# Altium schematic symbol library Embedded.SchLib: 9 symbols
Pins are listed as number, name and electrical type; pins without a type are passive.

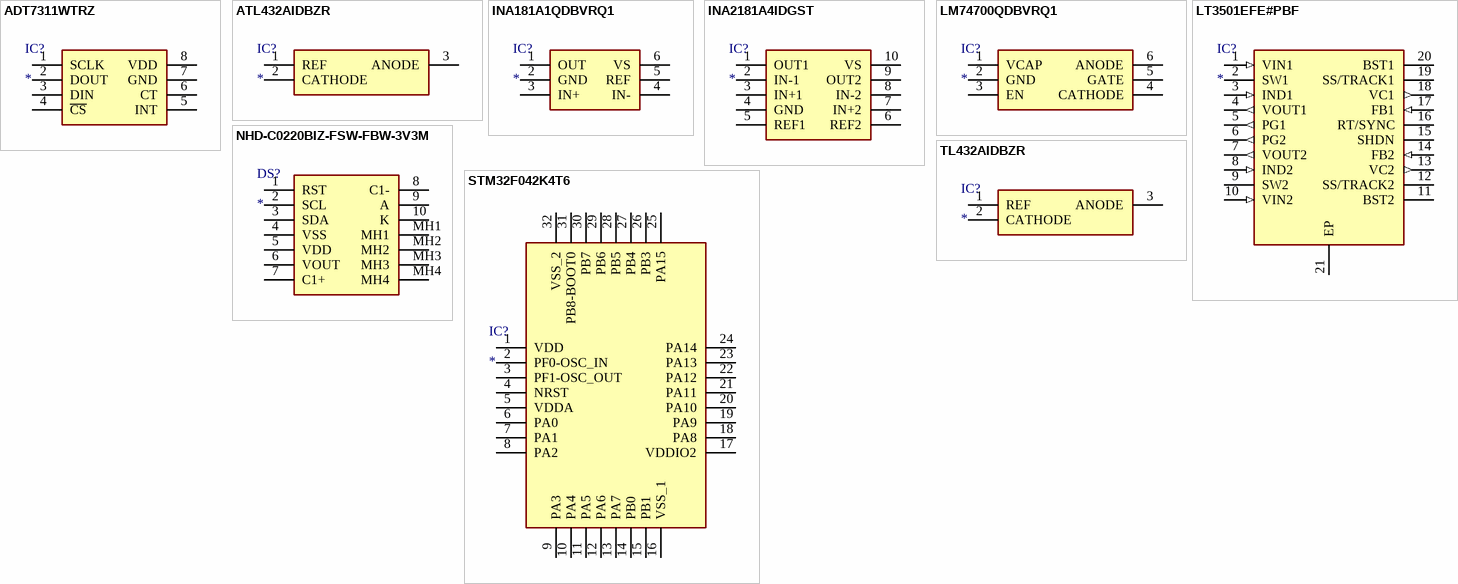
[diagram p0: symbols ADT7311WTRZ to TL432AIDBZR]

## ADT7311WTRZ
designator IC?
Integrated Circuit; Manufacturer_Name: Analog Devices; Manufacturer_Part_Number: ADT7311WTRZ; Datasheet Link: https://componentsearchengine.com/Datasheets/2/ADT7311WTRZ.pdf; Height: 1.75mm; Mouser Part Number: 584-ADT7311WTRZ; Mouser Price/Stock: https://www.mouser.com/Search/Refine.aspx?Keyword=584-ADT7311WTRZ
footprint SOIC127P600X175-8N
pins: 1 SCLK, 2 DOUT, 3 DIN, 4 ~{CS}, 5 INT, 6 CT, 7 GND, 8 VDD

## ATL432AIDBZR
designator IC?
Integrated Circuit; Manufacturer_Name: Texas Instruments; Manufacturer_Part_Number: ATL432AIDBZR; Datasheet Link: https://www.ti.com/lit/gpn/ATL432; Height: 1.12mm; Arrow Part Number: ATL432AIDBZR; Mouser Part Number: 595-ATL432AIDBZR; Mouser Price/Stock: https://www.mouser.co.uk/ProductDetail/Texas-Instruments/ATL432AIDBZR?qs=yajEpaT76uTSfuUtbT09pw%3D%3D
footprint SOT95P237X112-3N
pins: 1 REF, 2 CATHODE, 3 ANODE

## INA181A1QDBVRQ1
designator IC?
Integrated Circuit; Manufacturer_Name: Texas Instruments; Manufacturer_Part_Number: INA181A1QDBVRQ1; Datasheet Link: http://www.ti.com/lit/gpn/INA181-Q1; Height: 1.45mm; Arrow Part Number: INA181A1QDBVRQ1; Arrow Price/Stock: https://www.arrow.com/en/products/ina181a1qdbvrq1/texas-instruments; Mouser Part Number: 595-INA181A1QDBVRQ1; Mouser Price/Stock: https://www.mouser.co.uk/ProductDetail/Texas-Instruments/INA181A1QDBVRQ1?qs=EBDBlbfErPx7yYU5sEtaJQ%3D%3D
footprint SOT95P280X145-6N
pins: 1 OUT, 2 GND, 3 IN+, 4 IN-, 5 REF, 6 VS

## INA2181A4IDGST
designator IC?
Integrated Circuit; Manufacturer_Name: Texas Instruments; Manufacturer_Part_Number: INA2181A4IDGST; Datasheet Link: http://www.ti.com/lit/ds/symlink/ina2181.pdf; Height: 1.1mm; Arrow Part Number: INA2181A4IDGST; Arrow Price/Stock: https://www.arrow.com/en/products/ina2181a4idgst/texas-instruments; Mouser Part Number: 595-INA2181A4IDGST; Mouser Price/Stock: https://www.mouser.co.uk/ProductDetail/Texas-Instruments/INA2181A4IDGST?qs=j%252B1pi9TdxUbPFaAVw1%2FxVg%3D%3D
footprint SOP50P490X110-10N
pins: 1 OUT1, 2 IN-1, 3 IN+1, 4 GND, 5 REF1, 6 REF2, 7 IN+2, 8 IN-2, 9 OUT2, 10 VS

## LM74700QDBVRQ1
designator IC?
Integrated Circuit; Manufacturer_Name: Texas Instruments; Manufacturer_Part_Number: LM74700QDBVRQ1; Datasheet Link: http://www.ti.com/lit/gpn/LM74700-Q1; Height: 1.45mm; Arrow Part Number: LM74700QDBVRQ1; Arrow Price/Stock: https://www.arrow.com/en/products/lm74700qdbvrq1/texas-instruments; Mouser Part Number: 595-LM74700QDBVRQ1; Mouser Price/Stock: https://www.mouser.co.uk/ProductDetail/Texas-Instruments/LM74700QDBVRQ1?qs=j%252B1pi9TdxUYjAZhGV8eSkQ%3D%3D
footprint SOT95P280X145-6N
pins: 1 VCAP, 2 GND, 3 EN, 4 CATHODE, 5 GATE, 6 ANODE

## LT3501EFE#PBF
designator IC?
Integrated Circuit; Manufacturer_Name: Linear Technology; Manufacturer_Part_Number: LT3501EFE#PBF; Datasheet Link: http://cds.linear.com/docs/en/datasheet/3501fd.pdf; Height: 1.2mm; Arrow Part Number: LT3501EFE#PBF; Mouser Part Number: 584-LT3501EFE#PBF; Mouser Price/Stock: https://www.mouser.com/Search/Refine.aspx?Keyword=584-LT3501EFE%23PBF
footprint SOP65P640X120-21N
pins: 1 VIN1 (in), 2 SW1, 3 IND1 (in), 4 VOUT1 (out), 5 PG1 (out), 6 PG2 (out), 7 VOUT2 (out), 8 IND2 (in), 9 SW2, 10 VIN2 (in), 11 BST2, 12 SS/TRACK2, 13 VC2 (out), 14 FB2 (in), 15 SHDN, 16 RT/SYNC, 17 FB1 (in), 18 VC1 (out), 19 SS/TRACK1, 20 BST1, 21 EP (power)

## NHD-C0220BIZ-FSW-FBW-3V3M
designator DS?
Display; Manufacturer_Name: Newhaven Display; Manufacturer_Part_Number: NHD-C0220BIZ-FSW-FBW-3V3M; Datasheet Link: https://componentsearchengine.com/Datasheets/1/NHD-C0220BiZ-FSW-FBW-3V3M.pdf; Height: 7mm; Arrow Part Number: NHD-C0220BIZ-FSW-FBW-3V3M; Mouser Part Number: 763-C0220BIZ-FSW-FBW; Mouser Price/Stock: https://www.mouser.com/Search/Refine.aspx?Keyword=763-C0220BIZ-FSW-FBW
footprint NHDC0220BIZFSWFBW3V3M
pins: 1 RST, 2 SCL, 3 SDA, 4 VSS, 5 VDD, 6 VOUT, 7 C1+, 8 C1-, 9 A, 10 K, MH1, MH2, MH3, MH4

## STM32F042K4T6
designator IC?
Integrated Circuit; Manufacturer_Name: STMicroelectronics; Manufacturer_Part_Number: STM32F042K4T6; Datasheet Link: https://www.mouser.com/datasheet/2/389/stm32f042c4-956225.pdf; Height: 1.6mm; Arrow Part Number: STM32F042K4T6; Arrow Price/Stock: https://www.arrow.com/en/products/stm32f042k4t6/stmicroelectronics; Mouser Part Number: 511-STM32F042K4T6; Mouser Price/Stock: https://www.mouser.co.uk/ProductDetail/STMicroelectronics/STM32F042K4T6?qs=ClYTdQWm4hDAfZj5dd9NhA%3D%3D
footprint QFP80P900X900X160-32N
pins: 1 VDD, 2 PF0-OSC_IN, 3 PF1-OSC_OUT, 4 NRST, 5 VDDA, 6 PA0, 7 PA1, 8 PA2, 9 PA3, 10 PA4, 11 PA5, 12 PA6, 13 PA7, 14 PB0, 15 PB1, 16 VSS_1, 17 VDDIO2, 18 PA8, 19 PA9, 20 PA10, 21 PA11, 22 PA12, 23 PA13, 24 PA14, 25 PA15, 26 PB3, 27 PB4, 28 PB5, 29 PB6, 30 PB7, 31 PB8-BOOT0, 32 VSS_2

## TL432AIDBZR
designator IC?
Integrated Circuit; Manufacturer_Name: Texas Instruments; Manufacturer_Part_Number: TL432AIDBZR; Datasheet Link: http://www.ti.com/lit/gpn/tl432a; Height: 1.12mm; Arrow Part Number: TL432AIDBZR; Arrow Price/Stock: https://www.arrow.com/en/products/tl432aidbzr/texas-instruments; Mouser Part Number: 595-TL432AIDBZR; Mouser Price/Stock: https://www.mouser.co.uk/ProductDetail/Texas-Instruments/TL432AIDBZR?qs=odmYgEirbwzw%252BopYvrzCyA%3D%3D
footprint SOT95P237X112-3N
pins: 1 REF, 2 CATHODE, 3 ANODE